# Altium schematic symbol library resistor.SchLib: 19 symbols
Pins are listed as number, name and electrical type; pins without a type are passive.

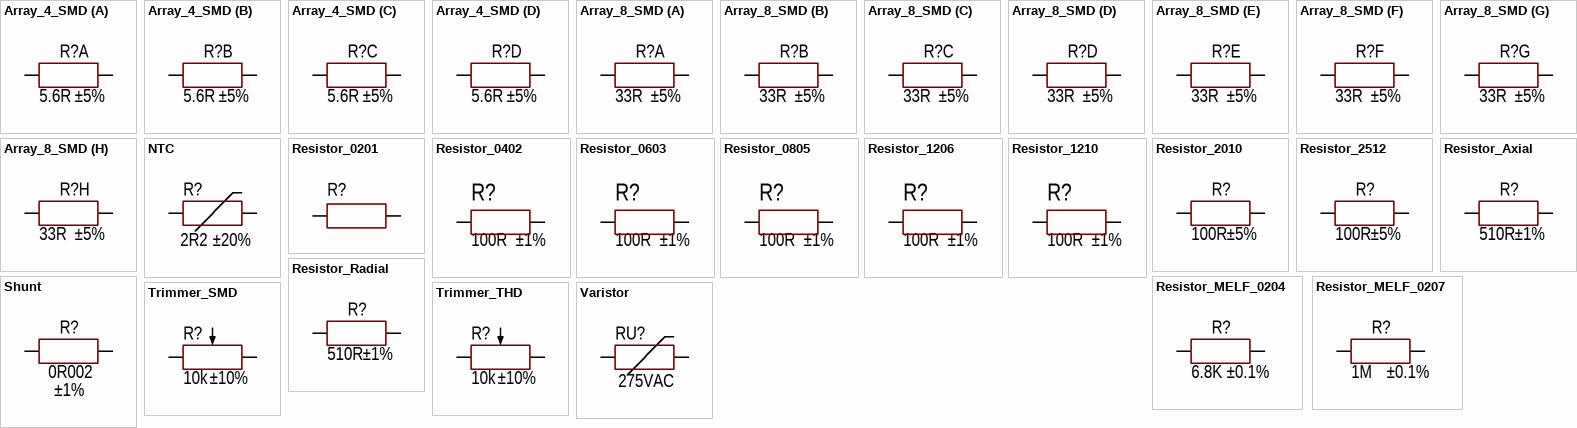
[diagram p0: symbols Array_4_SMD to Varistor]

## Array_4_SMD
designator R?  value 5.6R  Tolerance: ±5%
Manufacturer: Panasonic; PartNumber: EXB-N8V5R6JX; ValueManufacturerPartNumber: Resistor Arrays, 5.6R, ±5%, 0804, 0.031W, 0402x4, -55...+125°C; TypeResistor: Resistor Arrays; Power: 0.031W; Resistors: 0402x4; Package: 0804; HelpURL: https://www.mouser.com/ProductDetail/Panasonic/EXB-N8V5R6JX?qs=WwqriLBepZsO0%252BXcY4JNzg%3D%3D; Temperature: -55...+125°C
footprint RARRAY_0804_CONCAVE (Chip Array, Concave, 8-Leads, Pitch 0,50mm,  Body 2,00x1,00mm)
footprint RARRAY_0804_CONVEX (Chip Array, Convex, 8-Leads, Pitch 0,50mm,  Body 2,00x1,00mm)
footprint RARRAY_1206_CONCAVE (Chip Array, Concave, 8-Leads, Pitch 0,80mm,  Body 3,20x1,60mm)
footprint RARRAY_1206_CONVEX (Chip Array, Convex, 8-Leads, Pitch 0,80mm,  Body 3,20x1,60mm)
part A pins: 1, 8
part B pins: 2, 7
part C pins: 3, 6
part D pins: 4, 5

## Array_8_SMD
designator R?  value 33R  Tolerance: ±5%
Manufacturer: YAGEO; PartNumber: YC248-JR-0733RL; ValueManufacturerPartNumber: Resistor Arrays, 33R, ±5%, 1606, 0.063W, 0402x8, -55...+155°C; TypeResistor: Resistor Arrays; Power: 0.063W; Resistors: 0402x8; Package: 1606; HelpURL: https://eu.mouser.com/ProductDetail/YAGEO/YC248-JR-0733RL?qs=nLJruSqDb979t1oygygK%252Bw%3D%3D; Temperature: -55...+155°C
footprint RARRAY_1606_YAGEO_YC248 (Resistor, Chip Array, 0.50mm pitch; 16 pin, 1.60mm W X 4mm L X 0.55mm H, YC248 Serie)
part A pins: 1, 16
part B pins: 2, 15
part C pins: 3, 14
part D pins: 4, 13
part E pins: 5, 12
part F pins: 6, 11
part G pins: 7, 10
part H pins: 8, 9

## NTC
designator R?  value 2R2  Tolerance: ±20%
Manufacturer: Epcos; PartNumber: B57237S229M54; ValueManufacturerPartNumber: NTC resistor, 2R2, ±20%, pitch 7.5mm, 7A, -55...+125°C; TypeResistor: NTC resistor; MaxCurrent: 7A; Package: pitch 7.5mm; HelpURL: https://www.digikey.com/product-detail/en/epcos-tdk/B57237S229M54/495-76635-1-ND/8126375; Temperature: -55...+125°C
footprint RES_0201
footprint RES_0402
footprint RES_0603
footprint RES_0805
footprint RES_1206
footprint RNTC_B57237
pins: 1, 2

## Resistor_0201
designator R?, comment 100R ±1%  (value not drawn)
Manufacturer: Yageo; PartNumber: RC0201FR-07100RL; ValueManufacturerPartNumber: Resistor film, 100R, ±1%, 0201, , -55...+125°C; TypeResistor: Resistor film; Package: 0201; HelpURL: https://atta.szlcsc.com/upload/public/pdf/source/20200715/C477806_459C1AFDDE50C2F454F34BC1FEE90AFF.pdf; Temperature: -55...+125°C; Value: 100R; Tolerance: ±1%
footprint RES_0201
pins: 1, 2

## Resistor_0402
designator R?, comment value 100R  Tolerance: ±1%  (hidden comment: 100R ±1%)
Manufacturer: Yageo; PartNumber: RC0402FR-07100RL; ValueManufacturerPartNumber: Resistor film, 100R, ±1%, 0402, 0.063W, -55...+125°C; TypeResistor: Resistor film; Power: 0.063W; Package: 0402; HelpURL: https://atta.szlcsc.com/upload/public/pdf/source/20200715/C477806_459C1AFDDE50C2F454F34BC1FEE90AFF.pdf; Temperature: -55...+125°C
footprint RES_0402
pins: 1, 2

## Resistor_0603
designator R?, comment value 100R  Tolerance: ±1%  (hidden comment: 100R ±1%)
Manufacturer: Yageo; PartNumber: RC0603FR-07100RL; ValueManufacturerPartNumber: Resistor film, 100R, ±1%, 0603, , -55...+125°C; TypeResistor: Resistor film; Package: 0603; HelpURL: https://atta.szlcsc.com/upload/public/pdf/source/20200715/C477806_459C1AFDDE50C2F454F34BC1FEE90AFF.pdf; Temperature: -55...+125°C
footprint RES_0603
pins: 1, 2

## Resistor_0805
designator R?, comment value 100R  Tolerance: ±1%  (hidden comment: 100R ±1%)
Manufacturer: Yageo; PartNumber: RC0805FR-07100RL; ValueManufacturerPartNumber: Resistor film, 100R, ±1%, 0805, , -55...+125°C; TypeResistor: Resistor film; Package: 0805; HelpURL: https://atta.szlcsc.com/upload/public/pdf/source/20200715/C477806_459C1AFDDE50C2F454F34BC1FEE90AFF.pdf; Temperature: -55...+125°C
footprint RES_0805
pins: 1, 2

## Resistor_1206
designator R?, comment value 100R  Tolerance: ±1%  (hidden comment: 100R ±1%)
Manufacturer: Yageo; PartNumber: RC1206FR-07100RL; ValueManufacturerPartNumber: Resistor film, 100R, ±1%, 1206, , -55...+125°C; TypeResistor: Resistor film; Package: 1206; HelpURL: https://atta.szlcsc.com/upload/public/pdf/source/20200715/C477806_459C1AFDDE50C2F454F34BC1FEE90AFF.pdf; Temperature: -55...+125°C
footprint RES_1206
pins: 1, 2

## Resistor_1210
designator R?, comment value 100R  Tolerance: ±1%  (hidden comment: 100R ±1%)
Manufacturer: Yageo; PartNumber: RC1210FR-07100RL; ValueManufacturerPartNumber: Resistor film, 100R, ±1%, 1210, , -55...+125°C; TypeResistor: Resistor film; Package: 1210; HelpURL: https://atta.szlcsc.com/upload/public/pdf/source/20200715/C477806_459C1AFDDE50C2F454F34BC1FEE90AFF.pdf; Temperature: -55...+125°C
footprint RES_1210
pins: 1, 2

## Resistor_2010
designator R?  value 100R  Tolerance: ±5%
Manufacturer: Yageo; PartNumber: RC2010JK-07100RL; ValueManufacturerPartNumber: Resistor film, 100R, ±5%, 2010, 0.75W, -55...+125°C; TypeResistor: Resistor film; Power: 0.75W; Package: 2010; HelpURL: https://atta.szlcsc.com/upload/public/pdf/source/20200715/C477806_459C1AFDDE50C2F454F34BC1FEE90AFF.pdf; Temperature: -55...+125°C
footprint RES_2010
pins: 1, 2

## Resistor_2512
designator R?  value 100R  Tolerance: ±5%
Manufacturer: Yageo; PartNumber: RC2512JK-07100RL; ValueManufacturerPartNumber: Resistor film, 100R, ±5%, 2512, 1W, -55...+125°C; TypeResistor: Resistor film; Power: 1W; Package: 2512; HelpURL: https://www.digikey.com/product-detail/en/yageo/RC2512JK-07100RL/YAG3393CT-ND/5962215; Temperature: -55...+125°C
footprint RES_2512
pins: 1, 2

## Resistor_Axial
designator R?  value 510R  Tolerance: ±1%
Manufacturer: Yageo; PartNumber: MFR25SFTF52-510R; ValueManufacturerPartNumber: Metal Film Resistors, 510R, ±1%, 1.9x3.4mm, 250mW, -55...+155°C; TypeResistor: Metal Film Resistors; Power: 250mW; Package: 1.9x3.4mm; HelpURL: https://www.mouser.com/ProductDetail/YAGEO/MFR25SFTF52-510R?qs=sGAEpiMZZMsPqMdJzcrNwoMVoLRhO46JBDbNW3G1KrYYtV3z3QE9pw%3D%3D; Temperature: -55...+155°C
footprint AXIAL_D1.8_L3.2_P6.0_S0.0
footprint AXIAL_D2.5_L6.8_P10.0_S0.0
pins: 1, 2

## Resistor_MELF_0204
designator R?  value 6.8K  Tolerance: ±0.1%
Manufacturer: Vishay; PartNumber: MMA02040E6801BB100; ValueManufacturerPartNumber: MELF Resistors, 6.8K, ±0.1%, MELF 0204, 0.25W, -55...+125°C; TypeResistor: MELF Resistors; Power: 0.25W; Package: MELF 0204; HelpURL: https://eu.mouser.com/ProductDetail/Vishay/MMA02040E6801BB100?qs=17u8i%2FzlE89ZU9QPJN30Gw%3D%3D; Temperature: -55...+125°C
footprint RMELF-0204 (MELF Resistor, 2-Leads, Body 3.6x1.4mm, IPC Medium Density)
pins: 1, 2

## Resistor_MELF_0207
designator R?  value 1M  Tolerance: ±0.1%
Manufacturer: Vishay; PartNumber: MMB02070E1004BB700; ValueManufacturerPartNumber: MELF Resistors, 1M, ±0.1%, MELF 0207, 0.4W, -55...+125°C; TypeResistor: MELF Resistors; Power: 0.4W; Package: MELF 0207; HelpURL: https://eu.mouser.com/ProductDetail/Vishay-Beyschlag/MMB02070E1004BB700?qs=AQlKX63v8Rt3miHsk2o5ew%3D%3D; Temperature: -55...+125°C
footprint RMELF-0207 (MELF Resistor, 2-Leads, Body 5.7x2.1mm, IPC Medium Density)
pins: 1, 2

## Resistor_Radial
designator R?  value 510R  Tolerance: ±1%
Manufacturer: Yageo; PartNumber: MFR25SFTF52-510R; ValueManufacturerPartNumber: Resistor film, 510R, ±1%, 1.9x3.4mm, 250mW, -55...+155°C; TypeResistor: Resistor film; Power: 250mW; Package: 1.9x3.4mm; HelpURL: https://www.mouser.com/ProductDetail/YAGEO/MFR25SFTF52-510R?qs=sGAEpiMZZMsPqMdJzcrNwoMVoLRhO46JBDbNW3G1KrYYtV3z3QE9pw%3D%3D; Temperature: -55...+155°C
footprint RADIAL_D1.8_L3.2_P2.55_S0.0
footprint RADIAL_D2.5_L6.8_P2.55_S0.0
pins: 1, 2

## Shunt
designator R?  value 0R002  Tolerance: ±1%
Manufacturer: Bourns; PartNumber: CSS2H-2512K-2L00F; ValueManufacturerPartNumber: Resistor film, 0R002, ±1%, 2512, 5W, -55...+170°C; TypeResistor: Resistor film; Power: 5W; Package: 2512; HelpURL: https://www.digikey.com/product-detail/en/bourns-inc/CSS2H-2512K-2L00F/CSS2H-2512K-2L00FCT-ND/6023737; Temperature: -55...+170°C
footprint RSH_CSS2H (2512)
footprint RSH_3920 (1052 metric)
pins: 1, 2

## Trimmer_SMD
designator R?  value 10k  Tolerance: ±10%
Manufacturer: Bourns; PartNumber: 3296W-1-103LF; ValueManufacturerPartNumber: Resistor film, 10k, ±10%, 3296W, 0.5W, -55...+125°C; TypeResistor: Resistor film; Power: 0.5W; Package: 3296W; HelpURL: https://www.digikey.com/product-detail/en/bourns-inc/3296W-1-103LF/3296W-103LF-ND/1088045; Temperature: -55...+125°C
footprint RTRIM_BOURNS_3223W (Bourns 3223W Trimming Potentiometer)
footprint RTRIM_BOURNS_3224G (Bourns 3224G Trimming Potentiometer)
footprint RTRIM_BOURNS_3224J (Bourns 3224J Trimming Potentiometer)
footprint RTRIM_BOURNS_3224W (Bourns 3224W Trimming Potentiometer)
footprint RTRIM_BOURNS_3224X (Bourns 3224X Trimming Potentiometer)
footprint RTRIM_BOURNS_3269W (Bourns 3314G-1 Bourns 3269W Trimming Potentiometer (Top Adjust))
footprint RTRIM_BOURNS_3314G-1 (Bourns 3314G-1 Single Turn 4mm Square Trimpot® Trimming Potentiometer (Top Adjust))
footprint RTRIM_BOURNS_3314G-2 (Bourns 3314G-1 Single Turn 4mm Square Trimpot® Trimming Potentiometer (Cross Slot, Top Adjust))
footprint RTRIM_BOURNS_PVG5A (Bourns PVG5A Trimming Potentiometer)
footprint RTRIM_TT ELECTRONICS_84W (12 Turn Trimming Potentiometer (Top Adjust), Body 6.35mm x 4.32mmm, 84W Series)
footprint RTRIM_VISHAY_TSM4YL (W 3.5 x L 4.8 x H 5.3mm Trimming Potentiometer Serie TSM4YL)
pins: 1, 2, 3

## Trimmer_THD
designator R?  value 10k  Tolerance: ±10%
Manufacturer: Bourns; PartNumber: 3296W-1-103LF; ValueManufacturerPartNumber: Resistor film, 10k, ±10%, 3296W, 0.5W, -55...+125°C; TypeResistor: Resistor film; Power: 0.5W; Package: 3296W; HelpURL: https://www.digikey.com/product-detail/en/bourns-inc/3296W-1-103LF/3296W-103LF-ND/1088045; Temperature: -55...+125°C
footprint RTRIM_ALPS_RK09K (1 Turn Panel Control Trimming Potentiometer RK09K Series)
footprint RTRIM_BOURNS_93R1A-R22 (1 Turn Panel Control Trimming Potentiometer 93 Series)
footprint RTRIM_BOURNS_3006P (Trimming Potentiometer BOURNS 3006P Series)
footprint RTRIM_BOURNS_3059Y (Trimming Potentiometer BOURNS 3059 Series)
footprint RTRIM_BOURNS_3266P (Trimming Potentiometer BOURNS 3266P Series)
footprint RTRIM_BOURNS_3266W (Trimming Potentiometer BOURNS 3266W Series)
footprint RTRIM_BOURNS_3290W (Trimming Potentiometer BOURNS 3290W Series)
footprint RTRIM_BOURNS_3296P (Trimming Potentiometer BOURNS 3296P Series)
footprint RTRIM_BOURNS_3296W (Trimming Potentiometer BOURNS 3296W Series)
footprint RTRIM_BOURNS_3296X (Trimming Potentiometer BOURNS 3296X Series)
footprint RTRIM_BOURNS_3296Y (Trimming Potentiometer BOURNS 3296Y Series)
footprint RTRIM_BOURNS_3296Z (Trimming Potentiometer BOURNS 3296Z Series)
footprint RTRIM_BOURNS_3362P (Trimming Potentiometer BOURNS 3362P Series)
footprint RTRIM_BOURNS_PTV09A-4015F (1 Turn Panel Control Trimming Potentiometer PTV09A Series)
footprint RTRIM_VISHAY_1240W (21 Turn Bulk Metal® Foil Technology Ultra High Precision Trimming Potentiometer 1/4" Square, Accutrim 1240W (RJ26 Style))
footprint RTRIM_VISHAY_1280G (26 Turn Bulk Metal® Foil Technology Ultra High Precision Trimming Potentiometers, Body 19.05x4.83x7.11mm, Accutrim 1280G Series)
footprint RTRIM_VISHAY_T63XB (Trimming Potentiometer VISHAY T63YB Series (Side Adjustment))
footprint RTRIM_VISHAY_T63YB (Trimming Potentiometer VISHAY T63YB Series (Top Adjustment))
pins: 1, 2, 3

## Varistor
designator RU?  MaxVoltage: 275VAC
Manufacturer: Bourns; PartNumber: MOV-07D431KTR; ValueManufacturerPartNumber: Varistor, 275VAC, pitch 7mm, -55...+125°C; TypeResistor: Varistor; Package: pitch 7mm; HelpURL: https://www.digikey.com/product-detail/en/bourns-inc/MOV-07D431KTR/MOV-07D431KTRCT-ND/4318145; Temperature: -55...+125°C
footprint RVA_TMOV20
footprint RVA_MOV-07D431K
pins: 1, 2